# Altium schematic symbol library TLV2372IP.SchLib: 1 symbol
Pins are listed as number, name and electrical type; pins without a type are passive.

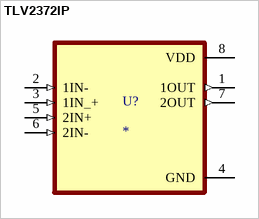
[diagram p0: symbol TLV2372IP]

## TLV2372IP
designator U?
Dual, 16-V, 3-MHz, RRIO operational amplifier; MF: Texas Instruments; MP: TLV2372IP; SnapEDA_Link: https://www.snapeda.com/parts/TLV2372IP/Texas+Instruments/view-part/?ref=snap; Package: PDIP-8 Texas; Value: *; Check_prices: https://www.snapeda.com/parts/TLV2372IP/Texas+Instruments/view-part/?ref=eda
footprint DIP794W45P254L959H508Q8
pins: 1 1OUT (out), 2 1IN- (in), 3 1IN_+ (in), 4 GND (power), 5 2IN+ (in), 6 2IN- (in), 7 2OUT (out), 8 VDD (power)